# EAGLE library part BC847BVN-7 (library diodes-inc-e14)
COMPLEMENTARY PAIR SMALL SIGNAL SURFACE MOUNT TRANSISTOR
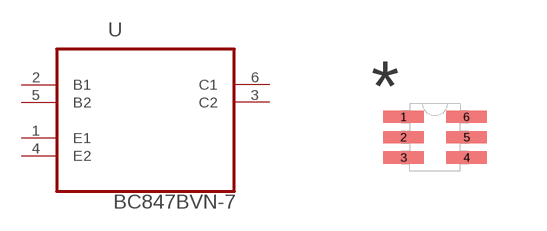
[diagram p18: symbol with the pads of SOT50P160X60-6N; footprint SOT50P160X60-6N]

Designator prefix U

## BC847BVN-7 (MPN: BC847BVN-7; OC_FARNELL: 1773601; OC_NEWARK: 51R6393; PACKAGE: SOT-563-6; SUPPLIER: Diodes Inc)  [SOT50P160X60-6N]
1  E1  pas
2  B1  pas
3  C2  pas
4  E2  pas
5  B2  pas
6  C1  pas

## Footprint SOT50P160X60-6N (pad centres in mm)
smd 1.016 x 0.305: 1 -0.787,0.508; 2 -0.787,0; 3 -0.787,-0.508; 4 0.787,-0.508; 5 0.787,0; 6 0.787,0.508